# Altium schematic symbol library stm32h755xih3.SchLib: 20 symbols
Pins are listed as number, name and electrical type; pins without a type are passive.

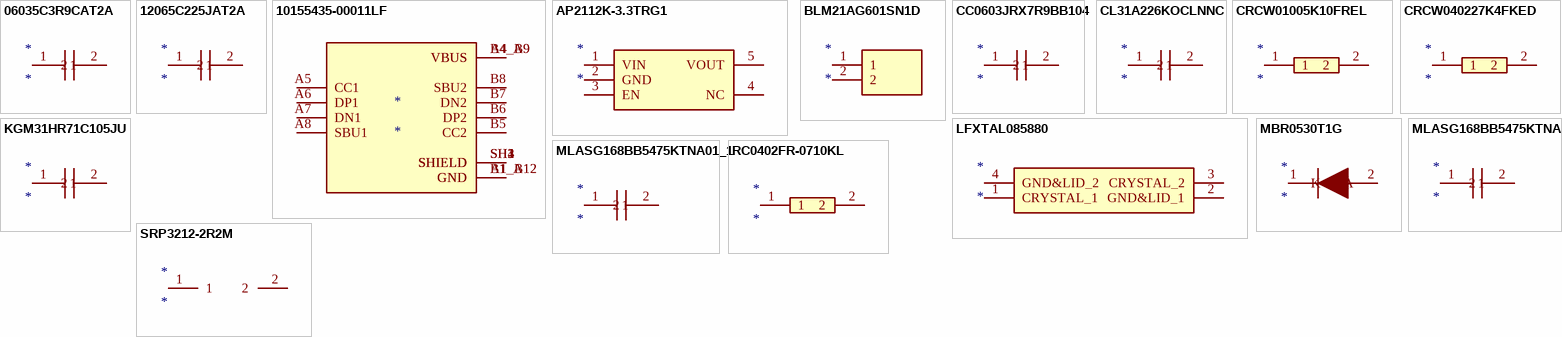
[diagram p0: symbols 06035C3R9CAT2A to SRP3212-2R2M]

## 06035C3R9CAT2A
designator *
pins: 1, 2

## 12065C225JAT2A
designator *
pins: 1, 2

## 10155435-00011LF
designator *
pins: A1_B12 GND, A4_B9 VBUS, A5 CC1, A6 DP1, A7 DN1, A8 SBU1, B1_A12 GND, B4_A9 VBUS, B5 CC2, B6 DP2, B7 DN2, B8 SBU2, SH1 SHIELD, SH2 SHIELD, SH3 SHIELD, SH4 SHIELD

## AP2112K-3.3TRG1
designator *
pins: 1 VIN, 2 GND, 3 EN, 4 NC, 5 VOUT

## BLM21AG601SN1D
designator *
pins: 1, 2

## CC0603JRX7R9BB104
designator *
pins: 1, 2

## CL31A226KOCLNNC
designator *
pins: 1, 2

## CRCW01005K10FREL
designator *
pins: 1, 2

## CRCW040227K4FKED
designator *
pins: 1, 2

## KGM31HR71C105JU
designator *
pins: 1, 2

## LFXTAL085880
designator *
pins: 1 CRYSTAL_1, 2 GND&LID_1, 3 CRYSTAL_2, 4 GND&LID_2

## MBR0530T1G
designator *
pins: 1 K, 2 A

## MLASG168BB5475KTNA01
designator *
pins: 1, 2

## MLASG168BB5475KTNA01_1
designator *
pins: 1, 2

## RC0402FR-0710KL
designator *
pins: 1, 2

## SRP3212-2R2M
designator *
pins: 1, 2

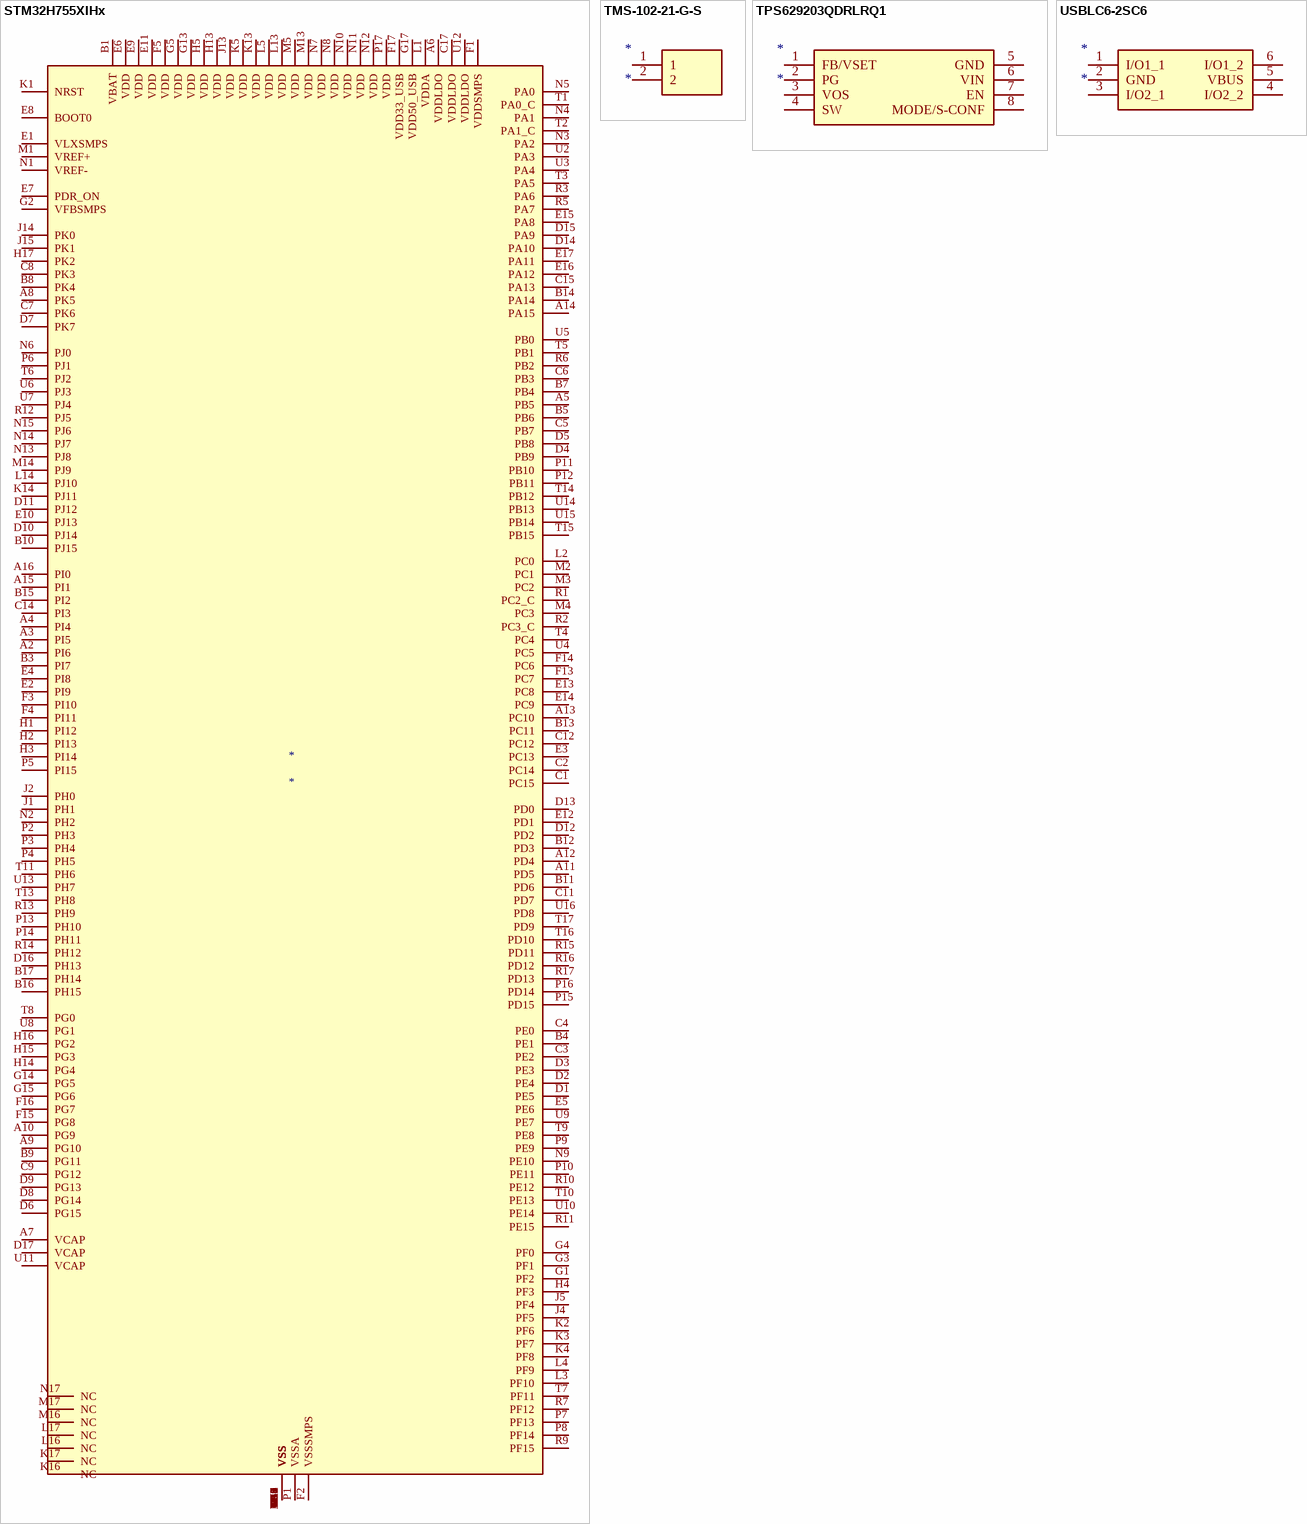
[diagram p1: symbols STM32H755XIHx to USBLC6-2SC6]

## STM32H755XIHx
designator *
pins: A1 VSS, A2 PI6, A3 PI5, A4 PI4, A5 PB5, A6 VDDLDO, A7 VCAP, A8 PK5, A9 PG10, A10 PG9, A11 PD5, A12 PD4, A13 PC10, A14 PA15, A15 PI1, A16 PI0, A17 VSS, B1 VBAT, B2 VSS, B3 PI7, B4 PE1, B5 PB6, B6 VSS, B7 PB4, B8 PK4, B9 PG11, B10 PJ15, B11 PD6, B12 PD3, B13 PC11, B14 PA14, B15 PI2, B16 PH15, B17 PH14, C1 PC15, C2 PC14, C3 PE2, C4 PE0, C5 PB7, C6 PB3, C7 PK6, C8 PK3, C9 PG12, C10 VSS, C11 PD7, C12 PC12, C13 VSS, C14 PI3, C15 PA13, C16 VSS, C17 VDDLDO, D1 PE5, D2 PE4, D3 PE3, D4 PB9, D5 PB8, D6 PG15, D7 PK7, D8 PG14, D9 PG13, D10 PJ14, D11 PJ12, D12 PD2, D13 PD0, D14 PA10, D15 PA9, D16 PH13, D17 VCAP, E1 VLXSMPS, E2 PI9, E3 PC13, E4 PI8, E5 PE6, E6 VDD, E7 PDR_ON, E8 BOOT0, E9 VDD, E10 PJ13, E11 VDD, E12 PD1, E13 PC8, E14 PC9, E15 PA8, E16 PA12, E17 PA11, F1 VDDSMPS, F2 VSSSMPS, F3 PI10, F4 PI11, F5 VDD, F13 PC7, F14 PC6, F15 PG8, F16 PG7, F17 VDD33_USB, G1 PF2, G2 VFBSMPS, G3 PF1, G4 PF0, G5 VDD, G7 VSS, G8 VSS, G9 VSS, G10 VSS, G11 VSS, G13 VDD, G14 PG5, G15 PG6, G16 VSS, G17 VDD50_USB, H1 PI12, H2 PI13, H3 PI14, H4 PF3, H5 VDD, H7 VSS, H8 VSS, H9 VSS, H10 VSS, H11 VSS, H13 VDD, H14 PG4, H15 PG3, H16 PG2, H17 PK2, J1 PH1, J2 PH0, J3 VSS, J4 PF5, J5 PF4, J7 VSS, J8 VSS, J9 VSS, J10 VSS, J11 VSS, J13 VDD, J14 PK0, J15 PK1, J16 VSS, J17 VSS, K1 NRST, K2 PF6, K3 PF7, K4 PF8, K5 VDD, K7 VSS, K8 VSS, K9 VSS, K10 VSS, K11 VSS, K13 VDD, K14 PJ11, K15 VSS, K16 NC, K17 NC, L1 VDDA, L2 PC0, L3 PF10, L4 PF9, L5 VDD, L7 VSS, L8 VSS, L9 VSS, L10 VSS, L11 VSS, L13 VDD, L14 PJ10, L15 VSS, L16 NC, L17 NC, M1 VREF+, M2 PC1, M3 PC2, M4 PC3, M5 VDD, M13 VDD, M14 PJ9, M15 VSS, M16 NC, M17 NC, N1 VREF-, N2 PH2, N3 PA2, N4 PA1, N5 PA0, N6 PJ0, N7 VDD, N8 VDD, N9 PE10, N10 VDD, N11 VDD, N12 VDD, N13 PJ8, N14 PJ7, N15 PJ6, N16 VSS, N17 NC, P1 VSSA, P2 PH3, P3 PH4, P4 PH5, P5 PI15, P6 PJ1, P7 PF13, P8 PF14, P9 PE9, P10 PE11, P11 PB10, P12 PB11, P13 PH10, P14 PH11, P15 PD15, P16 PD14, P17 VDD, R1 PC2_C, R2 PC3_C, R3 PA6, R4 VSS, R5 PA7, R6 PB2, R7 PF12, R8 VSS, R9 PF15, R10 PE12, R11 PE15, R12 PJ5, R13 PH9, R14 PH12, R15 PD11, R16 PD12, R17 PD13, T1 PA0_C, T2 PA1_C, T3 PA5, T4 PC4, T5 PB1, T6 PJ2, T7 PF11, T8 PG0, T9 PE8, T10 PE13, T11 PH6, T12 VSS, T13 PH8, T14 PB12, T15 PB15, T16 PD10, T17 PD9, U1 VSS, U2 PA3, U3 PA4, U4 PC5, U5 PB0, U6 PJ3, U7 PJ4, U8 PG1, U9 PE7, U10 PE14, U11 VCAP, U12 VDDLDO, U13 PH7, U14 PB13, U15 PB14, U16 PD8, U17 VSS

## TMS-102-21-G-S
designator *
pins: 1, 2

## TPS629203QDRLRQ1
designator *
pins: 1 FB/VSET, 2 PG, 3 VOS, 4 SW, 5 GND, 6 VIN, 7 EN, 8 MODE/S-CONF

## USBLC6-2SC6
designator *
pins: 1 I/O1_1, 2 GND, 3 I/O2_1, 4 I/O2_2, 5 VBUS, 6 I/O1_2